# Altium footprint library WSON10.PcbLib: 1 footprints
Each footprint in its own frame and in the unit in brackets; x right, y up, seen from the top. Pads: shape width x height; smd on the part's side, far side on the other; paste and mask are expansions set on the pad; w line width, h text height; cw(c..) or ccw(c..) is an arc to the next point about the centre after c.
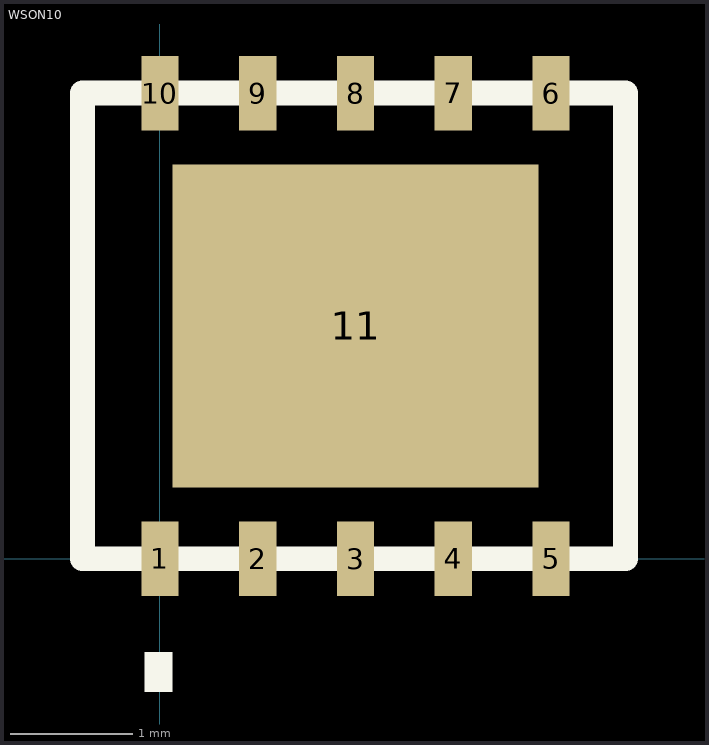
[diagram p0: the footprint, top view; thin cyan lines are the x and y axes]

## WSON10 [mil]
pads (11):
  rect 12x24 smd: 1(0,0) 2(31.5,0) 3(62.99,0) 4(94.49,0) 5(125.98,0) 6(125.98,150) 7(94.49,150) 8(62.99,150) 9(31.5,150) 10(0,150)
  rect 118x104 smd: 11(62.99,75)
Top Overlay:
  rectangle: -5,-43 4,-30
  lines w8: -25,0 150,0 150,150 -25,150 -25,0